# EAGLE library part 50224-028 (library con-aces-50224-series)
ACES CONNECTORS 50224 SERIES Aces Connectors 50224 <https://www.acesconn.com/tw/series/50224-xxxxx-xxx/3165>
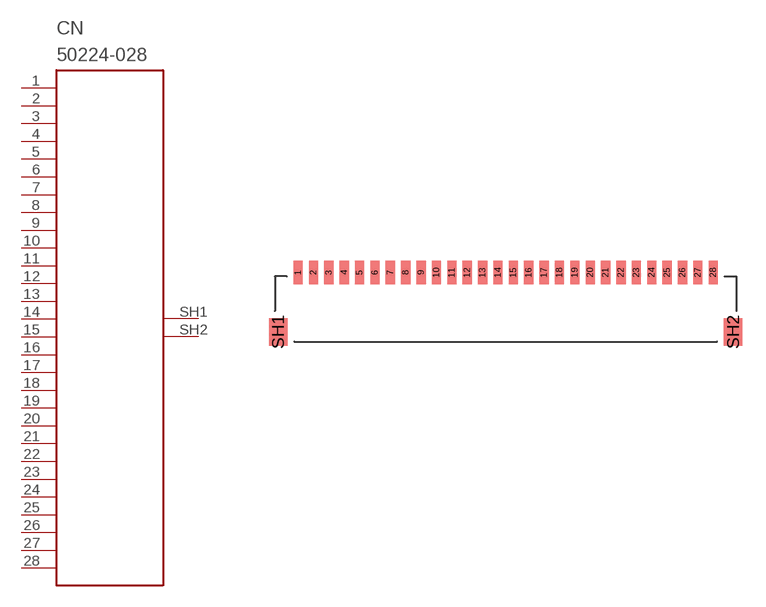
[diagram p20: symbol with the pads of 50224-028; footprint 50224-028]

Designator prefix CN

## 50224-028  [50224-028]
1  1
2  2
3  3
4  4
5  5
6  6
7  7
8  8
9  9
10  10
11  11
12  12
13  13
14  14
15  15
16  16
17  17
18  18
19  19
20  20
21  21
22  22
23  23
24  24
25  25
26  26
27  27
28  28
SH1  SH1
SH2  SH2

## Footprint 50224-028 (pad centres in mm)
smd 0.6 x 1.55: 1 -13.5,0; 2 -12.5,0; 3 -11.5,0; 4 -10.5,0; 5 -9.5,0; 6 -8.5,0; 7 -7.5,0; 8 -6.5,0; 9 -5.5,0; 10 -4.5,0; 11 -3.5,0; 12 -2.5,0; 13 -1.5,0; 14 -0.5,0; 15 0.5,0; 16 1.5,0; 17 2.5,0; 18 3.5,0; 19 4.5,0; 20 5.5,0; 21 6.5,0; 22 7.5,0; 23 8.5,0; 24 9.5,0; 25 10.5,0; 26 11.5,0; 27 12.5,0; 28 13.5,0
smd 1.2 x 1.8: SH1 -14.8,-3.875; SH2 14.8,-3.875